# Altium schematic symbol library RF_Detectors.SchLib: 6 symbols
Pins are listed as number, name and electrical type; pins without a type are passive.

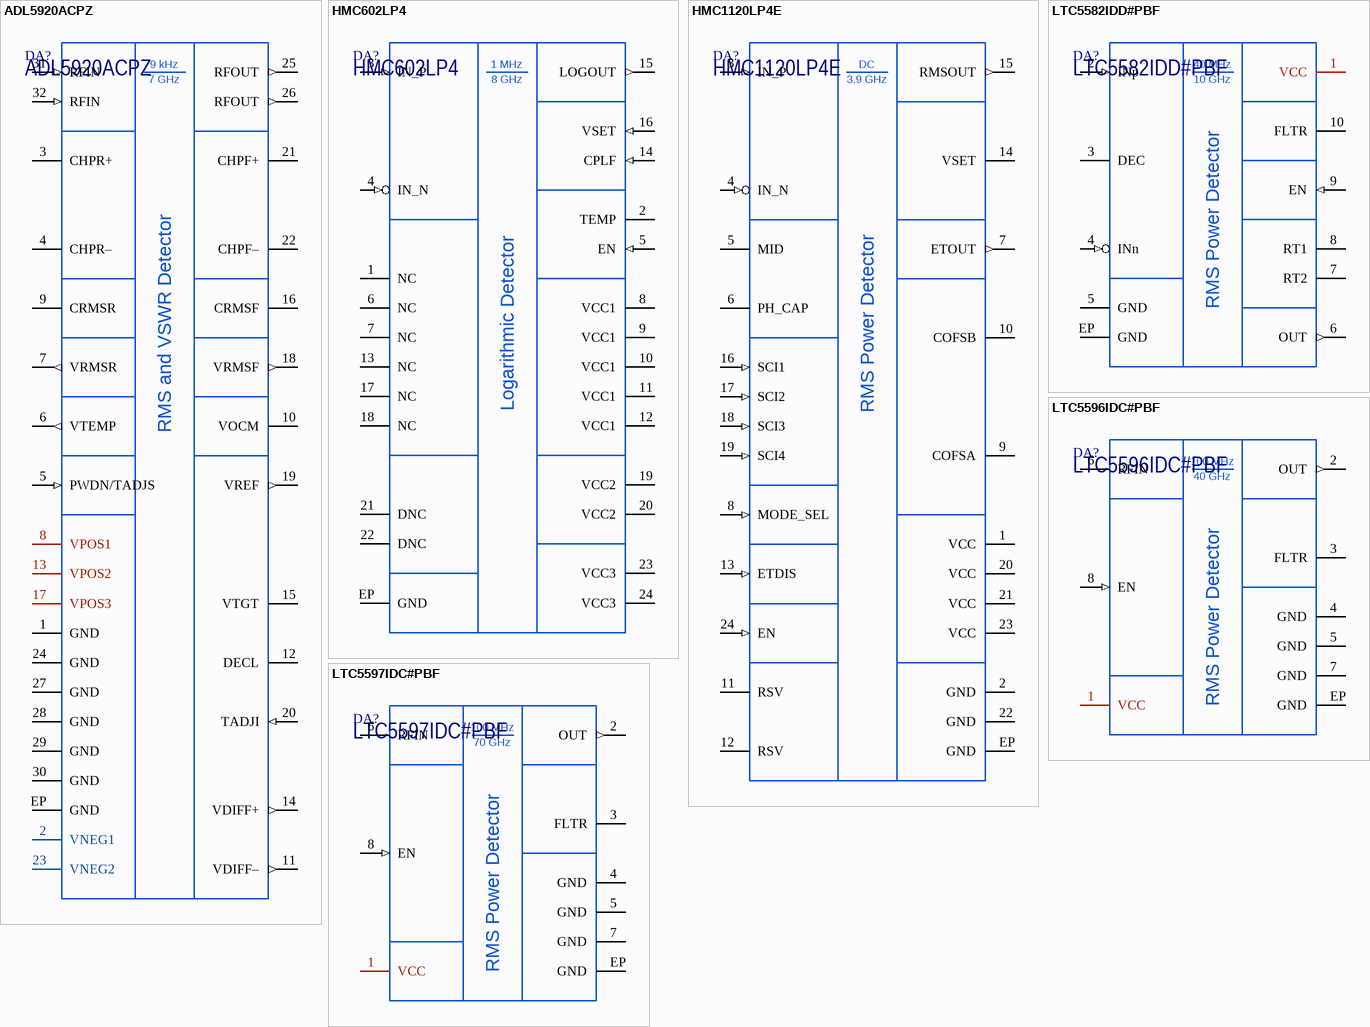
[diagram p0: symbols ADL5920ACPZ to LTC5597IDC#PBF]

## ADL5920ACPZ
designator DA?
9 kHz to 7 GHz, Bidirectional RMS and VSWR Detector; Manufacturer: Analog Devices; ItemType: IC; Package: QFN-32; PartNumber: ADL5920ACPZ; Marking: ADL5920; ItemSubType: Detector; Mounting: SMD
footprint LFCSP-32(CP-32-7) (QFN, 32-Leads, Body 5x5mm, Pitch 0.50mm, Thermal Pad 3.10x3.10mm)
pins: 1 GND, 2 VNEG1 (power), 3 CHPR+, 4 CHPR–, 5 PWDN/TADJS (in), 6 VTEMP (out), 7 VRMSR (out), 8 VPOS1 (power), 9 CRMSR, 10 VOCM, 11 VDIFF– (out), 12 DECL, 13 VPOS2 (power), 14 VDIFF+ (out), 15 VTGT, 16 CRMSF, 17 VPOS3 (power), 18 VRMSF (out), 19 VREF (out), 20 TADJI (in), 21 CHPF+, 22 CHPF–, 23 VNEG2 (power), 24 GND, 25 RFOUT (out), 26 RFOUT (out), 27 GND, 28 GND, 29 GND, 30 GND, 31 RFIN (in), 32 RFIN (in), EP GND
text: 9 kHz; 7 GHz; RMS and VSWR Detector

## HMC602LP4
designator DA?
70 dB, Logarithmic Detector 1 - 8000 MHz; Manufacturer: Analog Devices; Marking: 602; ItemType: IC; Alternative1: HMC602LP4E; Package: QFN-24; PartNumber: HMC602LP4; ItemSubType: Detector; AltManufacturer1: Analog Devices; Mounting: SMD
footprint QFN24_HMC602 (QFN 4mm x 4mm, 0.5mm pitch)
pins: 1 NC (hiz), 2 TEMP, 3 IN_P (in), 4 IN_N (in), 5 EN (in), 6 NC (hiz), 7 NC (hiz), 8 VCC1 (power), 9 VCC1 (power), 10 VCC1 (power), 11 VCC1 (power), 12 VCC1 (power), 13 NC (hiz), 14 CPLF (in), 15 LOGOUT (out), 16 VSET (in), 17 NC (hiz), 18 NC (hiz), 19 VCC2 (power), 20 VCC2 (power), 21 DNC (hiz) "Don't connect", 22 DNC (hiz) "Don't connect", 23 VCC3 (power), 24 VCC3 (power), EP GND
text: 1 MHz; 8 GHz; Logarithmic Detector

## HMC1120LP4E
designator DA?
RMS Power Detector DC - 3.9 GHz; Manufacturer: Analog Devices; Marking: 1120; ItemType: IC; Package: QFN-24; PartNumber: HMC1120LP4E; ItemSubType: Detector; Mounting: SMD
footprint QFN24_HMC1120 (QFN 4mm x 4mm, 0.5mm pitch)
pins: 1 VCC (power), 2 GND, 3 IN_P (in), 4 IN_N (in), 5 MID, 6 PH_CAP, 7 ETOUT (out), 8 MODE_SEL (in), 9 COFSA, 10 COFSB, 11 RSV (hiz), 12 RSV (hiz), 13 ETDIS (in), 14 VSET, 15 RMSOUT (out), 16 SCI1 (in), 17 SCI2 (in), 18 SCI3 (in), 19 SCI4 (in), 20 VCC (power), 21 VCC (power), 22 GND, 23 VCC (power), 24 EN (in), EP GND (power)
text: DC; 3.9 GHz; RMS Power Detector

## LTC5582IDD#PBF
designator DA?
40MHz to 10GHz  RMS Power Detector with 57dB Dynamic Range; Manufacturer: Analog Devices; Marking: LFGZ; ItemType: IC; Alternative1: LTC5582HDD#PBF; Package: DFN-8; PartNumber: LTC5582IDD#PBF; ItemSubType: Detector; AltManufacturer1: Analog Devices; Mounting: SMD
footprint DFN10_LTC5582 (Power DFN 3mm x 3mm, 0.5mm pitch)
pins: 1 VCC (power), 2 INp (in), 3 DEC, 4 INn (in), 5 GND (power), 6 OUT (out), 7 RT2, 8 RT1, 9 EN (in), 10 FLTR, EP GND (power)
text: 40 MHz; 10 GHz; RMS Power Detector

## LTC5596IDC#PBF
designator DA?
100MHz to 40GHz Linear-in-dB RMS Power Detector with 35dB Dynamic Range; Manufacturer: Analog Devices; Marking: LGNN; ItemType: IC; Alternative1: LTC5596HDC#TRPBF; Package: DFN-8; PartNumber: LTC5596IDC#PBF; ItemSubType: Detector; AltManufacturer1: Analog Devices; Mounting: SMD
footprint DFN8_LTC559x (DFN-8 2mm x 2mm, 0.5mm pitch)
pins: 1 VCC (power), 2 OUT (out), 3 FLTR, 4 GND (power), 5 GND (power), 6 RFIN, 7 GND (power), 8 EN (in), EP GND (power)
text: 100 MHz; 40 GHz; RMS Power Detector

## LTC5597IDC#PBF
designator DA?
100MHz to 70GHz Linear-in-dB RMS Power Detector with 35dB Dynamic Range; Manufacturer: Analog Devices; Marking: LHKF; ItemType: IC; Alternative1: LTC5597HDC#TRPBF; Package: DFN-8; PartNumber: LTC5597IDC#PBF; ItemSubType: Detector; AltManufacturer1: Analog Devices; Mounting: SMD
footprint DFN8_LTC559x (DFN-8 2mm x 2mm, 0.5mm pitch)
pins: 1 VCC (power), 2 OUT (out), 3 FLTR, 4 GND (power), 5 GND (power), 6 RFIN, 7 GND (power), 8 EN (in), EP GND (power)
text: 100 MHz; 70 GHz; RMS Power Detector